# EAGLE library part 750311475 (library Wurth Electronics Midcom Inc V1-0)
Package Style: Non Standard EFD25 18W THT Mounting: THT Pins: 10 pins Bobbin: 070-2710 Windings Primary: 16 - 40VDC, 100k - 250kHz Aux: Secondary: 5.0VDC, 1.333ADC Secondary: 5.0VDC, 1.333ADC Secondary: 5.0VDC, 1.333ADC Best pinouts for production vary per application. Please contact Wurth Electronics Midcom, Inc. for assistance with your custom design. Datasheet: 750311475 <http://www.we-online.com/web/en/index.php/show/media/passive_components_-_custom_magnetics/pdf_doc_files/spec_sheets/7503/750311475.pdf> Website: Wurth Electronics Midcom <http://www.we-online.com/midcom> Contact us Wurth Electronics Midcom, Inc. 121 Airport Dr. Watertown, SD 57201 Phone: (605) 886-4385 Fax: (605) 886-4486 E-Mail: midcom@we-online.com
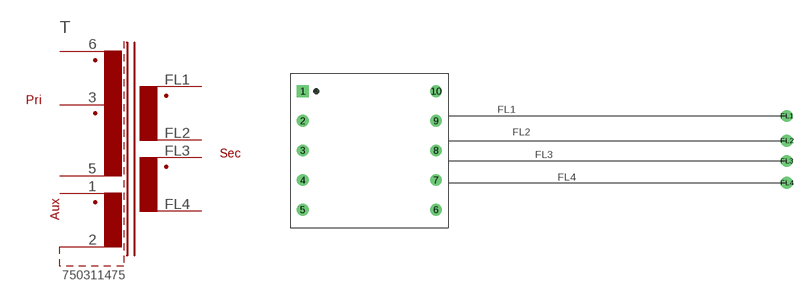
[diagram p62: symbol with the pads of 99NONSTANDARD_EFD25_THT_10PIN_FL; footprint 99NONSTANDARD_EFD25_THT_10PIN_FL]

Designator prefix T

## 750311475  [99NONSTANDARD_EFD25_THT_10PIN_FL]
1  4  pas
2  5  pas
3  2  pas
5  3  pas
6  1  pas
FL1  6  pas
FL2  7  pas
FL3  8  pas
FL4  9  pas

## Footprint 99NONSTANDARD_EFD25_THT_10PIN_FL (pad centres in mm)
Package Style: NON STANDARD EFD25 Mounting: THT with flying leads Pins: 10
drill 1.321 square: 1 -11.252,10.008
drill 1.321 round: 2 -11.252,5.004; 3 -11.252,0; 4 -11.252,-5.004; 5 -11.252,-10.008; 6 11.252,-10.008; 7 11.252,-5.004; 8 11.252,0; 9 11.252,5.004; 10 11.252,10.008; FL1 70.485,5.842; FL2 70.485,1.651; FL3 70.485,-1.778; FL4 70.485,-5.461